# Altium schematic symbol library Photocoupler.SchLib: 1 symbol
Pins are listed as number, name and electrical type; pins without a type are passive.

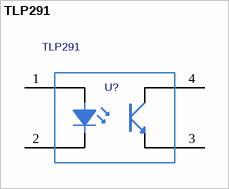
[diagram p0: symbol TLP291]

## TLP291
designator U?
TOSHIBA PHOTOCOUPLER GaAs IRED & PHOTO-TRANSISTOR; Full Part Number: TLP291(GB-TP,SE
footprint Model Name (Footprint not found)
pins: 1 A, 2 C, 3 E, 4 C